# EAGLE library part LPC1769FBD100,551 (library lpc176x)
IC, 32-bit ARM Cortex-M3 microcontroller, 100LQFP
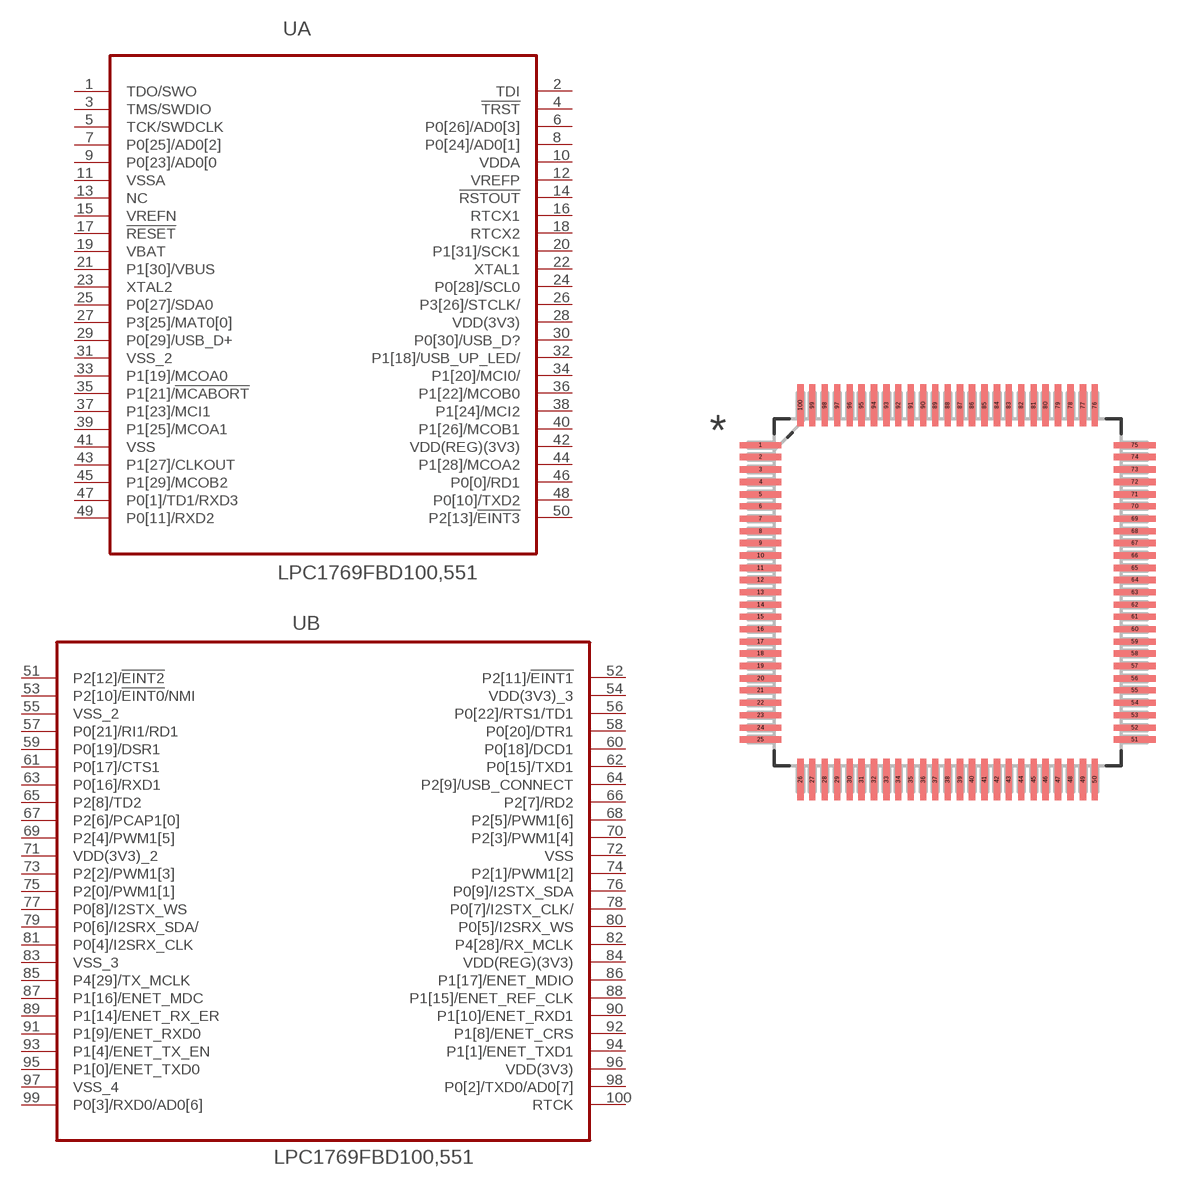
[diagram p0: symbol with the pads of QFP50P1600X1600X160-100N; footprint QFP50P1600X1600X160-100N]

Designator prefix U; gates A=LPC1769FBD100,551_A B=LPC1769FBD100,551_B

## LPC1769FBD100,551 (MPN: LPC1769FBD100,551; OC_FARNELL: 2072199; OC_NEWARK: 70R5603; PACKAGE: LQFP100; SUPPLIER: NXP)  [QFP50P1600X1600X160-100N]
1  A:TDO/SWO  out
2  A:TDI  in
3  A:TMS/SWDIO  in
4  A:!TRST  pas
5  A:TCK/SWDCLK  pas
6  A:P0[26]/AD0[3]
7  A:P0[25]/AD0[2]
8  A:P0[24]/AD0[1]
9  A:P0[23]/AD0[0
10  A:VDDA  pwr
11  A:VSSA  pas
12  A:VREFP  pas
13  A:NC  pas
14  A:!RSTOUT  out
15  A:VREFN  pas
16  A:RTCX1  pas
17  A:!RESET  pas
18  A:RTCX2  pas
19  A:VBAT  in
20  A:P1[31]/SCK1
21  A:P1[30]/VBUS
22  A:XTAL1  pas
23  A:XTAL2  pas
24  A:P0[28]/SCL0
25  A:P0[27]/SDA0
26  A:P3[26]/STCLK/
27  A:P3[25]/MAT0[0]
28  A:VDD(3V3)  pwr
29  A:P0[29]/USB_D+
30  A:P0[30]/USB_D?
31  A:VSS_2  pas
32  A:P1[18]/USB_UP_LED/
33  A:P1[19]/MCOA0
34  A:P1[20]/MCI0/
35  A:P1[21]/!MCABORT!
36  A:P1[22]/MCOB0
37  A:P1[23]/MCI1
38  A:P1[24]/MCI2
39  A:P1[25]/MCOA1
40  A:P1[26]/MCOB1
41  A:VSS  pas
42  A:VDD(REG)(3V3)  pwr
43  A:P1[27]/CLKOUT
44  A:P1[28]/MCOA2
45  A:P1[29]/MCOB2
46  A:P0[0]/RD1
47  A:P0[1]/TD1/RXD3
48  A:P0[10]/TXD2
49  A:P0[11]/RXD2
50  A:P2[13]/!EINT3!
51  B:P2[12]/!EINT2!
52  B:P2[11]/!EINT1!
53  B:P2[10]/!EINT0!/NMI
54  B:VDD(3V3)_3  pwr
55  B:VSS_2  pas
56  B:P0[22]/RTS1/TD1
57  B:P0[21]/RI1/RD1
58  B:P0[20]/DTR1
59  B:P0[19]/DSR1
60  B:P0[18]/DCD1
61  B:P0[17]/CTS1
62  B:P0[15]/TXD1
63  B:P0[16]/RXD1
64  B:P2[9]/USB_CONNECT
65  B:P2[8]/TD2
66  B:P2[7]/RD2
67  B:P2[6]/PCAP1[0]
68  B:P2[5]/PWM1[6]
69  B:P2[4]/PWM1[5]
70  B:P2[3]/PWM1[4]
71  B:VDD(3V3)_2  pwr
72  B:VSS  pas
73  B:P2[2]/PWM1[3]
74  B:P2[1]/PWM1[2]
75  B:P2[0]/PWM1[1]
76  B:P0[9]/I2STX_SDA
77  B:P0[8]/I2STX_WS
78  B:P0[7]/I2STX_CLK/
79  B:P0[6]/I2SRX_SDA/
80  B:P0[5]/I2SRX_WS
81  B:P0[4]/I2SRX_CLK
82  B:P4[28]/RX_MCLK
83  B:VSS_3  pas
84  B:VDD(REG)(3V3)  pwr
85  B:P4[29]/TX_MCLK
86  B:P1[17]/ENET_MDIO
87  B:P1[16]/ENET_MDC
88  B:P1[15]/ENET_REF_CLK
89  B:P1[14]/ENET_RX_ER
90  B:P1[10]/ENET_RXD1
91  B:P1[9]/ENET_RXD0
92  B:P1[8]/ENET_CRS
93  B:P1[4]/ENET_TX_EN
94  B:P1[1]/ENET_TXD1
95  B:P1[0]/ENET_TXD0
96  B:VDD(3V3)  pwr
97  B:VSS_4  pas
98  B:P0[2]/TXD0/AD0[7]
99  B:P0[3]/RXD0/AD0[6]
100  B:RTCK  out

## Footprint QFP50P1600X1600X160-100N (pad centres in mm)
smd 1.702 x 0.254: 1 -7.62,5.994; 2 -7.62,5.512; 3 -7.62,5.004; 4 -7.62,4.496; 5 -7.62,3.988; 6 -7.62,3.505; 7 -7.62,2.997; 8 -7.62,2.489; 9 -7.62,2.007; 10 -7.62,1.499; 11 -7.62,0.991; 12 -7.62,0.508; 13 -7.62,0; 14 -7.62,-0.508; 15 -7.62,-0.991; 16 -7.62,-1.499; 17 -7.62,-2.007; 18 -7.62,-2.489; 19 -7.62,-2.997; 20 -7.62,-3.505; 21 -7.62,-3.988; 22 -7.62,-4.496; 23 -7.62,-5.004; 24 -7.62,-5.512; 25 -7.62,-5.994; 51 7.62,-5.994; 52 7.62,-5.512; 53 7.62,-5.004; 54 7.62,-4.496; 55 7.62,-3.988; 56 7.62,-3.505; 57 7.62,-2.997; 58 7.62,-2.489; 59 7.62,-2.007; 60 7.62,-1.499; 61 7.62,-0.991; 62 7.62,-0.508; 63 7.62,0; 64 7.62,0.508; 65 7.62,0.991; 66 7.62,1.499; 67 7.62,2.007; 68 7.62,2.489; 69 7.62,2.997; 70 7.62,3.505; 71 7.62,3.988; 72 7.62,4.496; 73 7.62,5.004; 74 7.62,5.512; 75 7.62,5.994
smd 0.254 x 1.702: 26 -5.994,-7.62; 27 -5.512,-7.62; 28 -5.004,-7.62; 29 -4.496,-7.62; 30 -3.988,-7.62; 31 -3.505,-7.62; 32 -2.997,-7.62; 33 -2.489,-7.62; 34 -2.007,-7.62; 35 -1.499,-7.62; 36 -0.991,-7.62; 37 -0.508,-7.62; 38 0,-7.62; 39 0.508,-7.62; 40 0.991,-7.62; 41 1.499,-7.62; 42 2.007,-7.62; 43 2.489,-7.62; 44 2.997,-7.62; 45 3.505,-7.62; 46 3.988,-7.62; 47 4.496,-7.62; 48 5.004,-7.62; 49 5.512,-7.62; 50 5.994,-7.62; 76 5.994,7.62; 77 5.512,7.62; 78 5.004,7.62; 79 4.496,7.62; 80 3.988,7.62; 81 3.505,7.62; 82 2.997,7.62; 83 2.489,7.62; 84 2.007,7.62; 85 1.499,7.62; 86 0.991,7.62; 87 0.508,7.62; 88 0,7.62; 89 -0.508,7.62; 90 -0.991,7.62; 91 -1.499,7.62; 92 -2.007,7.62; 93 -2.489,7.62; 94 -2.997,7.62; 95 -3.505,7.62; 96 -3.988,7.62; 97 -4.496,7.62; 98 -5.004,7.62; 99 -5.512,7.62; 100 -5.994,7.62